# EAGLE library part 750032050 (library Midcom Inc - EAGLE Lib V2-0)
Package Style: EFD15 Mounting: SMD Pins: 8 pins Bobbin: 070-4320 Best pinouts for production vary per application. Please contact Wurth Electronics Midcom, Inc. for assistance with your custom design. Website: Wurth Electronics Midcom <http://www.we-online.com/midcom> Contact us Wurth Electronics Midcom, Inc. 121 Airport Dr. Watertown, SD 57201 Phone: (605) 886-4385 Fax: (605) 886-4486 E-Mail: midcom@we-online.com
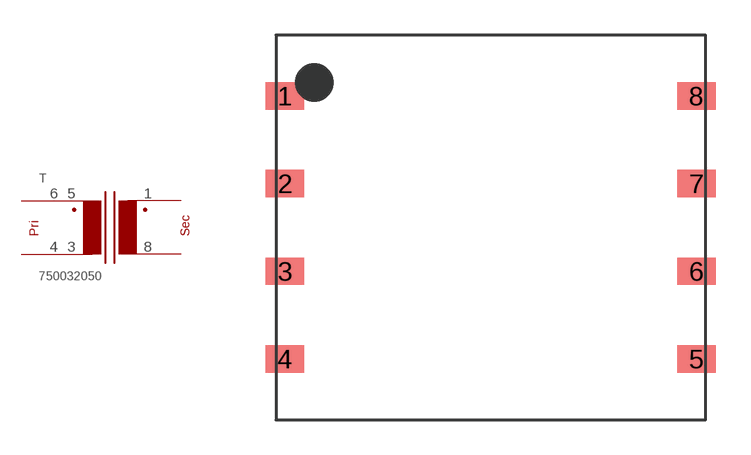
[diagram p375: symbol with the pads of EFD15_SMD_H_8PIN_(4320); footprint EFD15_SMD_H_8PIN_(4320)]

Designator prefix T

## 750032050  [EFD15_SMD_H_8PIN_(4320)]
1  1  pas
3  3  pas
4  4  pas
5  5  pas
6  6  pas
8  8  pas

## Footprint EFD15_SMD_H_8PIN_(4320) (pad centres in mm)
Package Style: EFD15 Mounting: SMD Pins: 8 Bobbin: 070-4320
smd 1.651 x 1.168: 1 -8.826,5.639; 2 -8.826,1.88; 3 -8.826,-1.88; 4 -8.826,-5.639; 5 8.826,-5.639; 6 8.826,-1.88; 7 8.826,1.88; 8 8.826,5.639